# EAGLE library part MEDER_CRF05-1A (library meng)
MEDER CRF05-1A RF Reed Relay in a ceramic surface mount package.
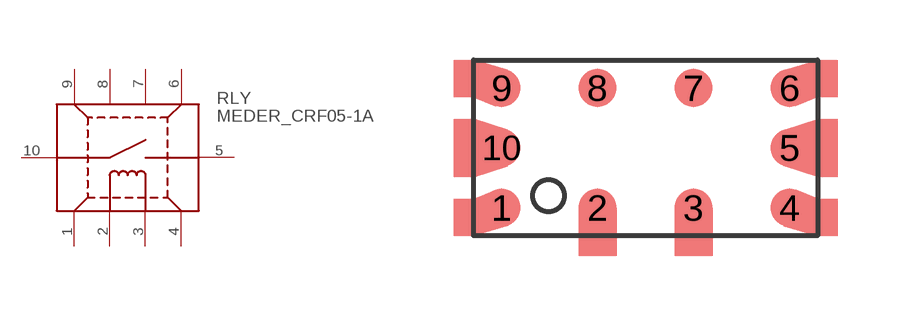
[diagram p21: symbol with the pads of MEDER_RELAY_CRF; footprint MEDER_RELAY_CRF]

Designator prefix RLY

## MEDER_CRF05-1A (VALUE: CRF05-1A)  [MEDER_RELAY_CRF]
1  PIN1
2  PIN2
3  PIN3
4  PIN4
5  PIN5
6  PIN6
7  PIN7
8  PIN8
9  PIN9
10  PIN10

## Footprint MEDER_RELAY_CRF (pad centres in mm)
smd 0.95 x 0.95: 1 1.2,0.7; 2 3.6,0.7; 3 6,0.7; 4 8.4,0.7; 5 8.4,2.2; 6 8.4,3.7; 7 6,3.7; 8 3.6,3.7; 9 1.2,3.7; 10 1.2,2.2